# Altium schematic symbol library XTAL.SchLib: 2 symbols
Pins are listed as number, name and electrical type; pins without a type are passive.

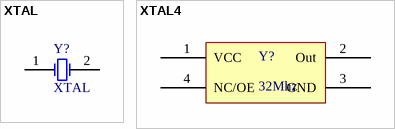
[diagram p0: symbols XTAL to XTAL4]

## XTAL
designator Y?
Crystal Oscillator; Published: 8-Jun-2000; LatestRevisionDate: 17-Jul-2002; LatestRevisionNote: Re-released for DXP Platform.; PackageReference: R38; Publisher: Altium Limited
simulation model XTAL (Spice Subcircuit)
footprint XTAL1
footprint XTAL2
footprint XTAL3
footprint XTAL4
footprint XTAL5
pins: 1 OSC1, 2 OSC2

## XTAL4
designator Y?, comment 32Mhz
footprint DIPXTAL8
footprint DIPXTAL14
footprint SMDXTAL3225
footprint SMDXTAL5032
footprint SMDXTAL6035
footprint SMDXTAL7050
footprint SMDXTAL7050-VXO507TL
footprint SMDXTAL9070
footprint SMDXTAL11496
footprint SMDXTAL14098
pins: 1 VCC, 2 Out, 3 GND, 4 NC/OE